# Altium footprint library 前瞻PCB.PcbLib: 2 footprints
Each footprint in its own frame and in the unit in brackets; x right, y up, seen from the top. Pads: shape width x height; smd on the part's side, far side on the other; paste and mask are expansions set on the pad; w line width, h text height; cw(c..) or ccw(c..) is an arc to the next point about the centre after c.
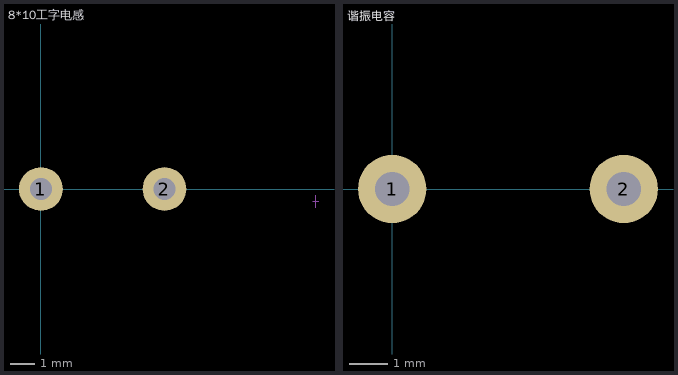
[diagram p0: the footprints below, top view; thin cyan lines are the x and y axes]

## 8*10工字电感 [mm]
pads (2):
  round 1.8 hole 0.9: 1(0,0) 2(5.08,0)
Mechanical 15:
  lines w0.01: 11.176,-0.508 11.43,-0.508 ; 11.303,-0.762 11.303,-0.254

## 谐振电容 [mm]
pads (2):
  round 1.8 hole 0.9: 1(0,0) 2(6.096,0)